# Altium footprint library QFN_Sq_50P_Side_N.PcbLib: 114 footprints (part 8 of 8)
Each footprint in its own frame and in the unit in brackets; x right, y up, seen from the top. Pads: shape width x height; smd on the part's side, far side on the other; paste and mask are expansions set on the pad; w line width, h text height; cw(c..) or ccw(c..) is an arc to the next point about the centre after c.
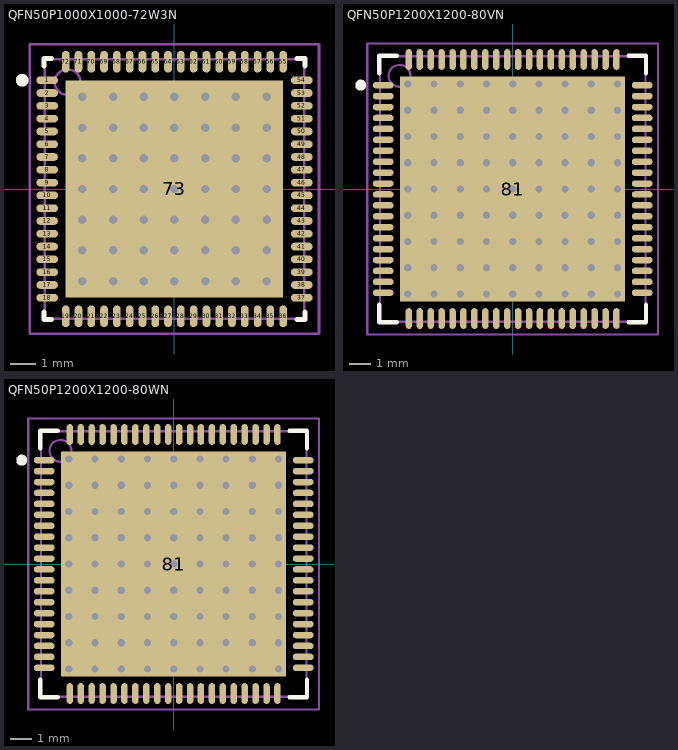
[diagram p7: the footprints below, top view; thin cyan lines are the x and y axes]

## QFN50P1000X1000-72W3N [mm] "QFN, 72-Leads, Body 10x10mm, Pitch 0.5mm, IPC Medium Density"
height 0.8
pads (73):
  oval 0.85x0.3 smd: 1(-4.975,4.25) 2(-4.975,3.75) 3(-4.975,3.25) 4(-4.975,2.75) 5(-4.975,2.25) 6(-4.975,1.75) 7(-4.975,1.25) 8(-4.975,0.75) 9(-4.975,0.25) 10(-4.975,-0.25) 11(-4.975,-0.75) 12(-4.975,-1.25) 13(-4.975,-1.75) 14(-4.975,-2.25) 15(-4.975,-2.75) 16(-4.975,-3.25) 17(-4.975,-3.75) 18(-4.975,-4.25) 37(4.975,-4.25) 38(4.975,-3.75) 39(4.975,-3.25) 40(4.975,-2.75) 41(4.975,-2.25) 42(4.975,-1.75) 43(4.975,-1.25) 44(4.975,-0.75) 45(4.975,-0.25) 46(4.975,0.25) 47(4.975,0.75) 48(4.975,1.25) 49(4.975,1.75) 50(4.975,2.25) 51(4.975,2.75) 52(4.975,3.25) 53(4.975,3.75) 54(4.975,4.25)
  oval 0.3x0.85 smd: 19(-4.25,-4.975) 20(-3.75,-4.975) 21(-3.25,-4.975) 22(-2.75,-4.975) 23(-2.25,-4.975) 24(-1.75,-4.975) 25(-1.25,-4.975) 26(-0.75,-4.975) 27(-0.25,-4.975) 28(0.25,-4.975) 29(0.75,-4.975) 30(1.25,-4.975) 31(1.75,-4.975) 32(2.25,-4.975) 33(2.75,-4.975) 34(3.25,-4.975) 35(3.75,-4.975) 36(4.25,-4.975) 55(4.25,4.975) 56(3.75,4.975) 57(3.25,4.975) 58(2.75,4.975) 59(2.25,4.975) 60(1.75,4.975) 61(1.25,4.975) 62(0.75,4.975) 63(0.25,4.975) 64(-0.25,4.975) 65(-0.75,4.975) 66(-1.25,4.975) 67(-1.75,4.975) 68(-2.25,4.975) 69(-2.75,4.975) 70(-3.25,4.975) 71(-3.75,4.975) 72(-4.25,4.975)
  rect 8.5x8.5 smd: 73(0,0)
via 3.6,-3.6 diameter 0.66 hole 0.33
via 2.4,-3.6 diameter 0.66 hole 0.33
via 1.2,-3.6 diameter 0.66 hole 0.33
via 0,-3.6 diameter 0.66 hole 0.33
via -1.2,-3.6 diameter 0.66 hole 0.33
via -2.4,-3.6 diameter 0.66 hole 0.33
via -3.6,-3.6 diameter 0.66 hole 0.33
via 3.6,-2.4 diameter 0.66 hole 0.33
via 2.4,-2.4 diameter 0.66 hole 0.33
via 1.2,-2.4 diameter 0.66 hole 0.33
via 0,-2.4 diameter 0.66 hole 0.33
via -1.2,-2.4 diameter 0.66 hole 0.33
via -2.4,-2.4 diameter 0.66 hole 0.33
via -3.6,-2.4 diameter 0.66 hole 0.33
via 3.6,-1.2 diameter 0.66 hole 0.33
via 2.4,-1.2 diameter 0.66 hole 0.33
via 1.2,-1.2 diameter 0.66 hole 0.33
via 0,-1.2 diameter 0.66 hole 0.33
via -1.2,-1.2 diameter 0.66 hole 0.33
via -2.4,-1.2 diameter 0.66 hole 0.33
via -3.6,-1.2 diameter 0.66 hole 0.33
via 3.6,0 diameter 0.66 hole 0.33
via 2.4,0 diameter 0.66 hole 0.33
via 1.2,0 diameter 0.66 hole 0.33
via 0,0 diameter 0.66 hole 0.33
via -1.2,0 diameter 0.66 hole 0.33
via -2.4,0 diameter 0.66 hole 0.33
via -3.6,0 diameter 0.66 hole 0.33
via 3.6,1.2 diameter 0.66 hole 0.33
via 2.4,1.2 diameter 0.66 hole 0.33
via 1.2,1.2 diameter 0.66 hole 0.33
via 0,1.2 diameter 0.66 hole 0.33
via -1.2,1.2 diameter 0.66 hole 0.33
via -2.4,1.2 diameter 0.66 hole 0.33
via -3.6,1.2 diameter 0.66 hole 0.33
via 3.6,2.4 diameter 0.66 hole 0.33
via 2.4,2.4 diameter 0.66 hole 0.33
via 1.2,2.4 diameter 0.66 hole 0.33
via 0,2.4 diameter 0.66 hole 0.33
via -1.2,2.4 diameter 0.66 hole 0.33
via -2.4,2.4 diameter 0.66 hole 0.33
via -3.6,2.4 diameter 0.66 hole 0.33
via 3.6,3.6 diameter 0.66 hole 0.33
via 2.4,3.6 diameter 0.66 hole 0.33
via 1.2,3.6 diameter 0.66 hole 0.33
via 0,3.6 diameter 0.66 hole 0.33
via -1.2,3.6 diameter 0.66 hole 0.33
via -2.4,3.6 diameter 0.66 hole 0.33
via -3.6,3.6 diameter 0.66 hole 0.33
Top Overlay:
  circle w0.25: c-5.95,4.25 r0.125
  lines w0.2: -5.1,-4.8 -5.1,-5.1 -4.8,-5.1 ; -5.1,4.8 -5.1,5.1 -4.8,5.1 ; 4.8,-5.1 5.1,-5.1 5.1,-4.8 ; 4.8,5.1 5.1,5.1 5.1,4.8
Mechanical 13:
  circle w0.1: c-4.175,4.175 r0.5
  lines w0.1: -5.075,-5.075 5.075,-5.075 5.075,5.075 -5.075,5.075 -5.075,-5.075
Mechanical 15:
  lines w0.1: -0.5,0 0.5,0 ; 0,-0.5 0,0.5 ; -5.65,-5.65 5.65,-5.65 5.65,5.65 -5.65,5.65 -5.65,-5.65
3D body: height 0.8, standoff 0, extent -5.075,-5.075 5.075,5.075

## QFN50P1200X1200-80VN [mm] "QFN, 80-Leads, Body 12x12mm, Pitch 0.5mm, IPC Medium Density"
height 1
pads (81):
  oval 0.95x0.3 smd: 1(-5.925,4.75) 2(-5.925,4.25) 3(-5.925,3.75) 4(-5.925,3.25) 5(-5.925,2.75) 6(-5.925,2.25) 7(-5.925,1.75) 8(-5.925,1.25) 9(-5.925,0.75) 10(-5.925,0.25) 11(-5.925,-0.25) 12(-5.925,-0.75) 13(-5.925,-1.25) 14(-5.925,-1.75) 15(-5.925,-2.25) 16(-5.925,-2.75) 17(-5.925,-3.25) 18(-5.925,-3.75) 19(-5.925,-4.25) 20(-5.925,-4.75) 41(5.925,-4.75) 42(5.925,-4.25) 43(5.925,-3.75) 44(5.925,-3.25) 45(5.925,-2.75) 46(5.925,-2.25) 47(5.925,-1.75) 48(5.925,-1.25) 49(5.925,-0.75) 50(5.925,-0.25) 51(5.925,0.25) 52(5.925,0.75) 53(5.925,1.25) 54(5.925,1.75) 55(5.925,2.25) 56(5.925,2.75) 57(5.925,3.25) 58(5.925,3.75) 59(5.925,4.25) 60(5.925,4.75)
  oval 0.3x0.95 smd: 21(-4.75,-5.925) 22(-4.25,-5.925) 23(-3.75,-5.925) 24(-3.25,-5.925) 25(-2.75,-5.925) 26(-2.25,-5.925) 27(-1.75,-5.925) 28(-1.25,-5.925) 29(-0.75,-5.925) 30(-0.25,-5.925) 31(0.25,-5.925) 32(0.75,-5.925) 33(1.25,-5.925) 34(1.75,-5.925) 35(2.25,-5.925) 36(2.75,-5.925) 37(3.25,-5.925) 38(3.75,-5.925) 39(4.25,-5.925) 40(4.75,-5.925) 61(4.75,5.925) 62(4.25,5.925) 63(3.75,5.925) 64(3.25,5.925) 65(2.75,5.925) 66(2.25,5.925) 67(1.75,5.925) 68(1.25,5.925) 69(0.75,5.925) 70(0.25,5.925) 71(-0.25,5.925) 72(-0.75,5.925) 73(-1.25,5.925) 74(-1.75,5.925) 75(-2.25,5.925) 76(-2.75,5.925) 77(-3.25,5.925) 78(-3.75,5.925) 79(-4.25,5.925) 80(-4.75,5.925)
  rect 10.3x10.3 smd: 81(0,0)
via 4.8,-4.8 diameter 0.66 hole 0.33
via 3.6,-4.8 diameter 0.66 hole 0.33
via 2.4,-4.8 diameter 0.66 hole 0.33
via 1.2,-4.8 diameter 0.66 hole 0.33
via 0,-4.8 diameter 0.66 hole 0.33
via -1.2,-4.8 diameter 0.66 hole 0.33
via -2.4,-4.8 diameter 0.66 hole 0.33
via -3.6,-4.8 diameter 0.66 hole 0.33
via -4.8,-4.8 diameter 0.66 hole 0.33
via 4.8,-3.6 diameter 0.66 hole 0.33
via 3.6,-3.6 diameter 0.66 hole 0.33
via 2.4,-3.6 diameter 0.66 hole 0.33
via 1.2,-3.6 diameter 0.66 hole 0.33
via 0,-3.6 diameter 0.66 hole 0.33
via -1.2,-3.6 diameter 0.66 hole 0.33
via -2.4,-3.6 diameter 0.66 hole 0.33
via -3.6,-3.6 diameter 0.66 hole 0.33
via -4.8,-3.6 diameter 0.66 hole 0.33
via 4.8,-2.4 diameter 0.66 hole 0.33
via 3.6,-2.4 diameter 0.66 hole 0.33
via 2.4,-2.4 diameter 0.66 hole 0.33
via 1.2,-2.4 diameter 0.66 hole 0.33
via 0,-2.4 diameter 0.66 hole 0.33
via -1.2,-2.4 diameter 0.66 hole 0.33
via -2.4,-2.4 diameter 0.66 hole 0.33
via -3.6,-2.4 diameter 0.66 hole 0.33
via -4.8,-2.4 diameter 0.66 hole 0.33
via 4.8,-1.2 diameter 0.66 hole 0.33
via 3.6,-1.2 diameter 0.66 hole 0.33
via 2.4,-1.2 diameter 0.66 hole 0.33
via 1.2,-1.2 diameter 0.66 hole 0.33
via 0,-1.2 diameter 0.66 hole 0.33
via -1.2,-1.2 diameter 0.66 hole 0.33
via -2.4,-1.2 diameter 0.66 hole 0.33
via -3.6,-1.2 diameter 0.66 hole 0.33
via -4.8,-1.2 diameter 0.66 hole 0.33
via 4.8,0 diameter 0.66 hole 0.33
via 3.6,0 diameter 0.66 hole 0.33
via 2.4,0 diameter 0.66 hole 0.33
via 1.2,0 diameter 0.66 hole 0.33
via 0,0 diameter 0.66 hole 0.33
via -1.2,0 diameter 0.66 hole 0.33
via -2.4,0 diameter 0.66 hole 0.33
via -3.6,0 diameter 0.66 hole 0.33
via -4.8,0 diameter 0.66 hole 0.33
via 4.8,1.2 diameter 0.66 hole 0.33
via 3.6,1.2 diameter 0.66 hole 0.33
via 2.4,1.2 diameter 0.66 hole 0.33
via 1.2,1.2 diameter 0.66 hole 0.33
via 0,1.2 diameter 0.66 hole 0.33
via -1.2,1.2 diameter 0.66 hole 0.33
via -2.4,1.2 diameter 0.66 hole 0.33
via -3.6,1.2 diameter 0.66 hole 0.33
via -4.8,1.2 diameter 0.66 hole 0.33
via 4.8,2.4 diameter 0.66 hole 0.33
via 3.6,2.4 diameter 0.66 hole 0.33
via 2.4,2.4 diameter 0.66 hole 0.33
via 1.2,2.4 diameter 0.66 hole 0.33
via 0,2.4 diameter 0.66 hole 0.33
via -1.2,2.4 diameter 0.66 hole 0.33
via -2.4,2.4 diameter 0.66 hole 0.33
via -3.6,2.4 diameter 0.66 hole 0.33
via -4.8,2.4 diameter 0.66 hole 0.33
via 4.8,3.6 diameter 0.66 hole 0.33
via 3.6,3.6 diameter 0.66 hole 0.33
via 2.4,3.6 diameter 0.66 hole 0.33
via 1.2,3.6 diameter 0.66 hole 0.33
via 0,3.6 diameter 0.66 hole 0.33
via -1.2,3.6 diameter 0.66 hole 0.33
via -2.4,3.6 diameter 0.66 hole 0.33
via -3.6,3.6 diameter 0.66 hole 0.33
via -4.8,3.6 diameter 0.66 hole 0.33
via 4.8,4.8 diameter 0.66 hole 0.33
via 3.6,4.8 diameter 0.66 hole 0.33
via 2.4,4.8 diameter 0.66 hole 0.33
via 1.2,4.8 diameter 0.66 hole 0.33
via 0,4.8 diameter 0.66 hole 0.33
via -1.2,4.8 diameter 0.66 hole 0.33
via -2.4,4.8 diameter 0.66 hole 0.33
via -3.6,4.8 diameter 0.66 hole 0.33
via -4.8,4.8 diameter 0.66 hole 0.33
Top Overlay:
  circle w0.25: c-6.95,4.75 r0.125
  lines w0.2: -6.1,-5.3 -6.1,-6.1 -5.3,-6.1 ; -6.1,5.3 -6.1,6.1 -5.3,6.1 ; 5.3,-6.1 6.1,-6.1 6.1,-5.3 ; 5.3,6.1 6.1,6.1 6.1,5.3
Mechanical 13:
  circle w0.1: c-5.175,5.175 r0.5
  lines w0.1: -6.075,-6.075 6.075,-6.075 6.075,6.075 -6.075,6.075 -6.075,-6.075
Mechanical 15:
  lines w0.1: -0.5,0 0.5,0 ; 0,-0.5 0,0.5 ; -6.65,-6.65 6.65,-6.65 6.65,6.65 -6.65,6.65 -6.65,-6.65
3D body: height 1, standoff 0, extent -6.075,-6.075 6.075,6.075

## QFN50P1200X1200-80WN [mm] "QFN, 80-Leads, Body 12x12mm, Pitch 0.5mm, IPC Medium Density"
height 0.8
pads (81):
  oval 0.95x0.3 smd: 1(-5.925,4.75) 2(-5.925,4.25) 3(-5.925,3.75) 4(-5.925,3.25) 5(-5.925,2.75) 6(-5.925,2.25) 7(-5.925,1.75) 8(-5.925,1.25) 9(-5.925,0.75) 10(-5.925,0.25) 11(-5.925,-0.25) 12(-5.925,-0.75) 13(-5.925,-1.25) 14(-5.925,-1.75) 15(-5.925,-2.25) 16(-5.925,-2.75) 17(-5.925,-3.25) 18(-5.925,-3.75) 19(-5.925,-4.25) 20(-5.925,-4.75) 41(5.925,-4.75) 42(5.925,-4.25) 43(5.925,-3.75) 44(5.925,-3.25) 45(5.925,-2.75) 46(5.925,-2.25) 47(5.925,-1.75) 48(5.925,-1.25) 49(5.925,-0.75) 50(5.925,-0.25) 51(5.925,0.25) 52(5.925,0.75) 53(5.925,1.25) 54(5.925,1.75) 55(5.925,2.25) 56(5.925,2.75) 57(5.925,3.25) 58(5.925,3.75) 59(5.925,4.25) 60(5.925,4.75)
  oval 0.3x0.95 smd: 21(-4.75,-5.925) 22(-4.25,-5.925) 23(-3.75,-5.925) 24(-3.25,-5.925) 25(-2.75,-5.925) 26(-2.25,-5.925) 27(-1.75,-5.925) 28(-1.25,-5.925) 29(-0.75,-5.925) 30(-0.25,-5.925) 31(0.25,-5.925) 32(0.75,-5.925) 33(1.25,-5.925) 34(1.75,-5.925) 35(2.25,-5.925) 36(2.75,-5.925) 37(3.25,-5.925) 38(3.75,-5.925) 39(4.25,-5.925) 40(4.75,-5.925) 61(4.75,5.925) 62(4.25,5.925) 63(3.75,5.925) 64(3.25,5.925) 65(2.75,5.925) 66(2.25,5.925) 67(1.75,5.925) 68(1.25,5.925) 69(0.75,5.925) 70(0.25,5.925) 71(-0.25,5.925) 72(-0.75,5.925) 73(-1.25,5.925) 74(-1.75,5.925) 75(-2.25,5.925) 76(-2.75,5.925) 77(-3.25,5.925) 78(-3.75,5.925) 79(-4.25,5.925) 80(-4.75,5.925)
  rect 10.3x10.3 smd: 81(0,0)
via 4.8,-4.8 diameter 0.66 hole 0.33
via 3.6,-4.8 diameter 0.66 hole 0.33
via 2.4,-4.8 diameter 0.66 hole 0.33
via 1.2,-4.8 diameter 0.66 hole 0.33
via 0,-4.8 diameter 0.66 hole 0.33
via -1.2,-4.8 diameter 0.66 hole 0.33
via -2.4,-4.8 diameter 0.66 hole 0.33
via -3.6,-4.8 diameter 0.66 hole 0.33
via -4.8,-4.8 diameter 0.66 hole 0.33
via 4.8,-3.6 diameter 0.66 hole 0.33
via 3.6,-3.6 diameter 0.66 hole 0.33
via 2.4,-3.6 diameter 0.66 hole 0.33
via 1.2,-3.6 diameter 0.66 hole 0.33
via 0,-3.6 diameter 0.66 hole 0.33
via -1.2,-3.6 diameter 0.66 hole 0.33
via -2.4,-3.6 diameter 0.66 hole 0.33
via -3.6,-3.6 diameter 0.66 hole 0.33
via -4.8,-3.6 diameter 0.66 hole 0.33
via 4.8,-2.4 diameter 0.66 hole 0.33
via 3.6,-2.4 diameter 0.66 hole 0.33
via 2.4,-2.4 diameter 0.66 hole 0.33
via 1.2,-2.4 diameter 0.66 hole 0.33
via 0,-2.4 diameter 0.66 hole 0.33
via -1.2,-2.4 diameter 0.66 hole 0.33
via -2.4,-2.4 diameter 0.66 hole 0.33
via -3.6,-2.4 diameter 0.66 hole 0.33
via -4.8,-2.4 diameter 0.66 hole 0.33
via 4.8,-1.2 diameter 0.66 hole 0.33
via 3.6,-1.2 diameter 0.66 hole 0.33
via 2.4,-1.2 diameter 0.66 hole 0.33
via 1.2,-1.2 diameter 0.66 hole 0.33
via 0,-1.2 diameter 0.66 hole 0.33
via -1.2,-1.2 diameter 0.66 hole 0.33
via -2.4,-1.2 diameter 0.66 hole 0.33
via -3.6,-1.2 diameter 0.66 hole 0.33
via -4.8,-1.2 diameter 0.66 hole 0.33
via 4.8,0 diameter 0.66 hole 0.33
via 3.6,0 diameter 0.66 hole 0.33
via 2.4,0 diameter 0.66 hole 0.33
via 1.2,0 diameter 0.66 hole 0.33
via 0,0 diameter 0.66 hole 0.33
via -1.2,0 diameter 0.66 hole 0.33
via -2.4,0 diameter 0.66 hole 0.33
via -3.6,0 diameter 0.66 hole 0.33
via -4.8,0 diameter 0.66 hole 0.33
via 4.8,1.2 diameter 0.66 hole 0.33
via 3.6,1.2 diameter 0.66 hole 0.33
via 2.4,1.2 diameter 0.66 hole 0.33
via 1.2,1.2 diameter 0.66 hole 0.33
via 0,1.2 diameter 0.66 hole 0.33
via -1.2,1.2 diameter 0.66 hole 0.33
via -2.4,1.2 diameter 0.66 hole 0.33
via -3.6,1.2 diameter 0.66 hole 0.33
via -4.8,1.2 diameter 0.66 hole 0.33
via 4.8,2.4 diameter 0.66 hole 0.33
via 3.6,2.4 diameter 0.66 hole 0.33
via 2.4,2.4 diameter 0.66 hole 0.33
via 1.2,2.4 diameter 0.66 hole 0.33
via 0,2.4 diameter 0.66 hole 0.33
via -1.2,2.4 diameter 0.66 hole 0.33
via -2.4,2.4 diameter 0.66 hole 0.33
via -3.6,2.4 diameter 0.66 hole 0.33
via -4.8,2.4 diameter 0.66 hole 0.33
via 4.8,3.6 diameter 0.66 hole 0.33
via 3.6,3.6 diameter 0.66 hole 0.33
via 2.4,3.6 diameter 0.66 hole 0.33
via 1.2,3.6 diameter 0.66 hole 0.33
via 0,3.6 diameter 0.66 hole 0.33
via -1.2,3.6 diameter 0.66 hole 0.33
via -2.4,3.6 diameter 0.66 hole 0.33
via -3.6,3.6 diameter 0.66 hole 0.33
via -4.8,3.6 diameter 0.66 hole 0.33
via 4.8,4.8 diameter 0.66 hole 0.33
via 3.6,4.8 diameter 0.66 hole 0.33
via 2.4,4.8 diameter 0.66 hole 0.33
via 1.2,4.8 diameter 0.66 hole 0.33
via 0,4.8 diameter 0.66 hole 0.33
via -1.2,4.8 diameter 0.66 hole 0.33
via -2.4,4.8 diameter 0.66 hole 0.33
via -3.6,4.8 diameter 0.66 hole 0.33
via -4.8,4.8 diameter 0.66 hole 0.33
Top Overlay:
  circle w0.25: c-6.95,4.75 r0.125
  lines w0.2: -6.1,-5.3 -6.1,-6.1 -5.3,-6.1 ; -6.1,5.3 -6.1,6.1 -5.3,6.1 ; 5.3,-6.1 6.1,-6.1 6.1,-5.3 ; 5.3,6.1 6.1,6.1 6.1,5.3
Mechanical 13:
  circle w0.1: c-5.175,5.175 r0.5
  lines w0.1: -6.075,-6.075 6.075,-6.075 6.075,6.075 -6.075,6.075 -6.075,-6.075
Mechanical 15:
  lines w0.1: -0.5,0 0.5,0 ; 0,-0.5 0,0.5 ; -6.65,-6.65 6.65,-6.65 6.65,6.65 -6.65,6.65 -6.65,-6.65
3D body: height 0.8, standoff 0, extent -6.075,-6.075 6.075,6.075